# EAGLE library part 776276-1 (library 776276-1)
8POS,PIN DIA 1.3,HDR ASSY,180DEG,SLDR,AMPSEAL, Automotive Headers, Wire-to-Board / Wire-to-Device, 8 Position, 4mm [.157in] Centerline, Sealable, Vertical, 3 Row, Black Source: Datasheet <https://www.te.com/commerce/DocumentDelivery/DDEController?Action=srchrtrv&DocNm=1-1773979-2&DocType=Data Sheet&DocLang=English&PartCntxt=776276-1&DocFormat=pdf>
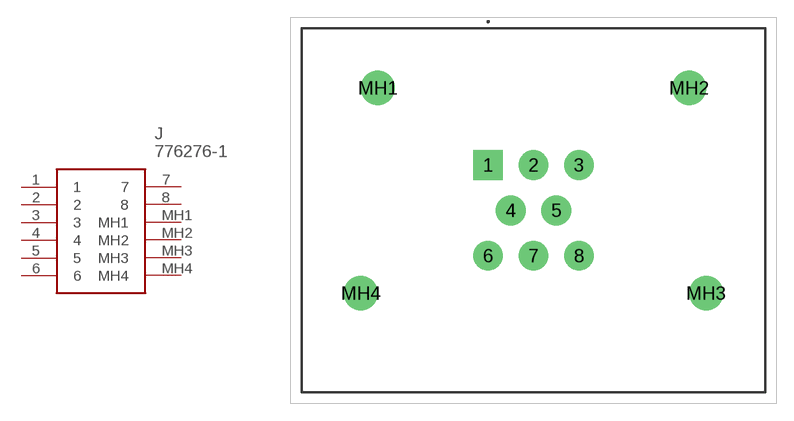
[diagram p0: symbol with the pads of 7762761; footprint 7762761]

Designator prefix J

## 776276-1 (Description: 8POS,PIN DIA 1.3,HDR ASSY,180DEG,SLDR,AMPSEAL, Automotive Headers, Wire-to-Board / Wire-to-Device, 8 Position, 4mm [.157in] Centerline, Sealable, Vertical, 3 Row, Black; Height: 34.5mm; Manufacturer_Name: TE Connectivity; Manufacturer_Part_Number: 776276-1; Mouser_Part_Number: 571-776276-1; Mouser_Price-Stock: https://www.mouser.co.uk/ProductDetail/TE-Connectivity/776276-1?qs=tLAa1RwIH6dOXUCPhsBe4Q%3D%3D)  [7762761]
1  1
2  2
3  3
4  4
5  5
6  6
7  7
8  8
MH1  MH1
MH2  MH2
MH3  MH3
MH4  MH4

## Footprint 7762761 (pad centres in mm)
776276-1-2
drill 1.75 pad 2.625 square: 1 0,0
drill 1.75 pad 2.625: 2 4,0; 3 8,0; 4 2,-4; 5 6,-4; 6 0,-8; 7 4,-8; 8 8,-8
drill 2 pad 3: MH1 -9.7,6.8; MH2 17.7,6.8; MH3 19.2,-11.3; MH4 -11.2,-11.3